# Altium footprint library tpi_carte_electronique_didactique_PittetL02.PcbLib: 18 footprints (part 2 of 2)
Each footprint in its own frame and in the unit in brackets; x right, y up, seen from the top. Pads: shape width x height; smd on the part's side, far side on the other; paste and mask are expansions set on the pad; w line width, h text height; cw(c..) or ccw(c..) is an arc to the next point about the centre after c.
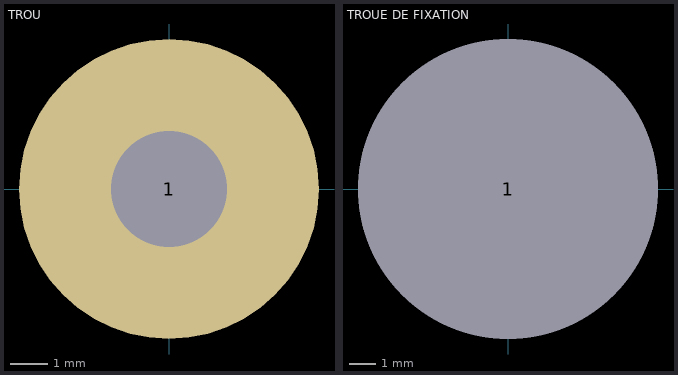
[diagram p1: the footprints below, top view; thin cyan lines are the x and y axes]

## TROU [mm]
pads (1):
  round 8 hole 3.1 unplated: 1(0,0)
Top Courtyard:
  circle w0.1: c0,0 r2.25

## TROUE DE FIXATION [mm]
pads (1):
  oval 11.4x11.3 hole 11.4 unplated: 1(0,0)